# EAGLE library part MPU6000 (library Lysenko_Eagle_Lib)
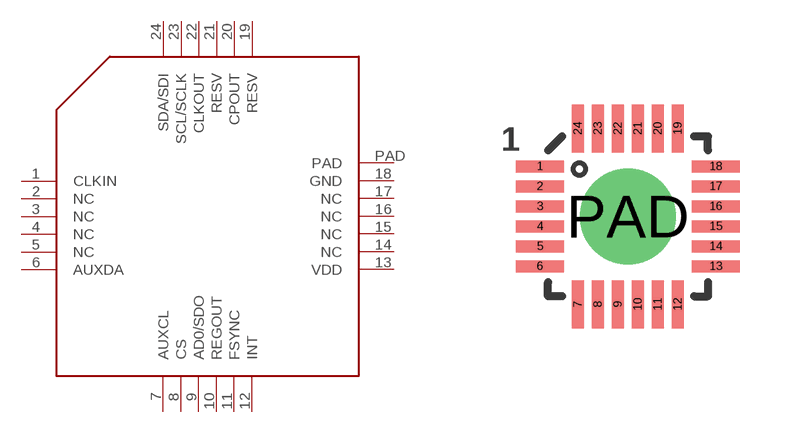
[diagram p11: symbol with the pads of QFN24; footprint QFN24]

Designator prefix -

## MPU6000  [QFN24]
1  CLKIN
2  NC
3  NC
4  NC
5  NC
6  AUXDA
7  AUXCL
8  CS
9  AD0/SDO
10  REGOUT
11  FSYNC
12  INT
13  VDD
14  NC
15  NC
16  NC
17  NC
18  GND
19  RESV
20  CPOUT
21  RESV
22  CLKOUT
23  SCL/SCLK
24  SDA/SDI
PAD  PAD

## Footprint QFN24 (pad centres in mm)
smd 1.2 x 0.3: 1 -2.2,1.25; 2 -2.2,0.75; 3 -2.2,0.25; 4 -2.2,-0.25; 5 -2.2,-0.75; 6 -2.2,-1.25; 13 2.2,-1.25; 14 2.2,-0.75; 15 2.2,-0.25; 16 2.2,0.25; 17 2.2,0.75; 18 2.2,1.25
smd 0.3 x 1.2: 7 -1.25,-2.2; 8 -0.75,-2.2; 9 -0.25,-2.2; 10 0.25,-2.2; 11 0.75,-2.2; 12 1.25,-2.2; 19 1.25,2.2; 20 0.75,2.2; 21 0.25,2.2; 22 -0.25,2.2; 23 -0.75,2.2; 24 -1.25,2.2
drill 1.6 pad 1.93: PAD 0,0